# EAGLE library part NRF52840-CKAA-R (library NRF52840-QIAA-R_A_functional)
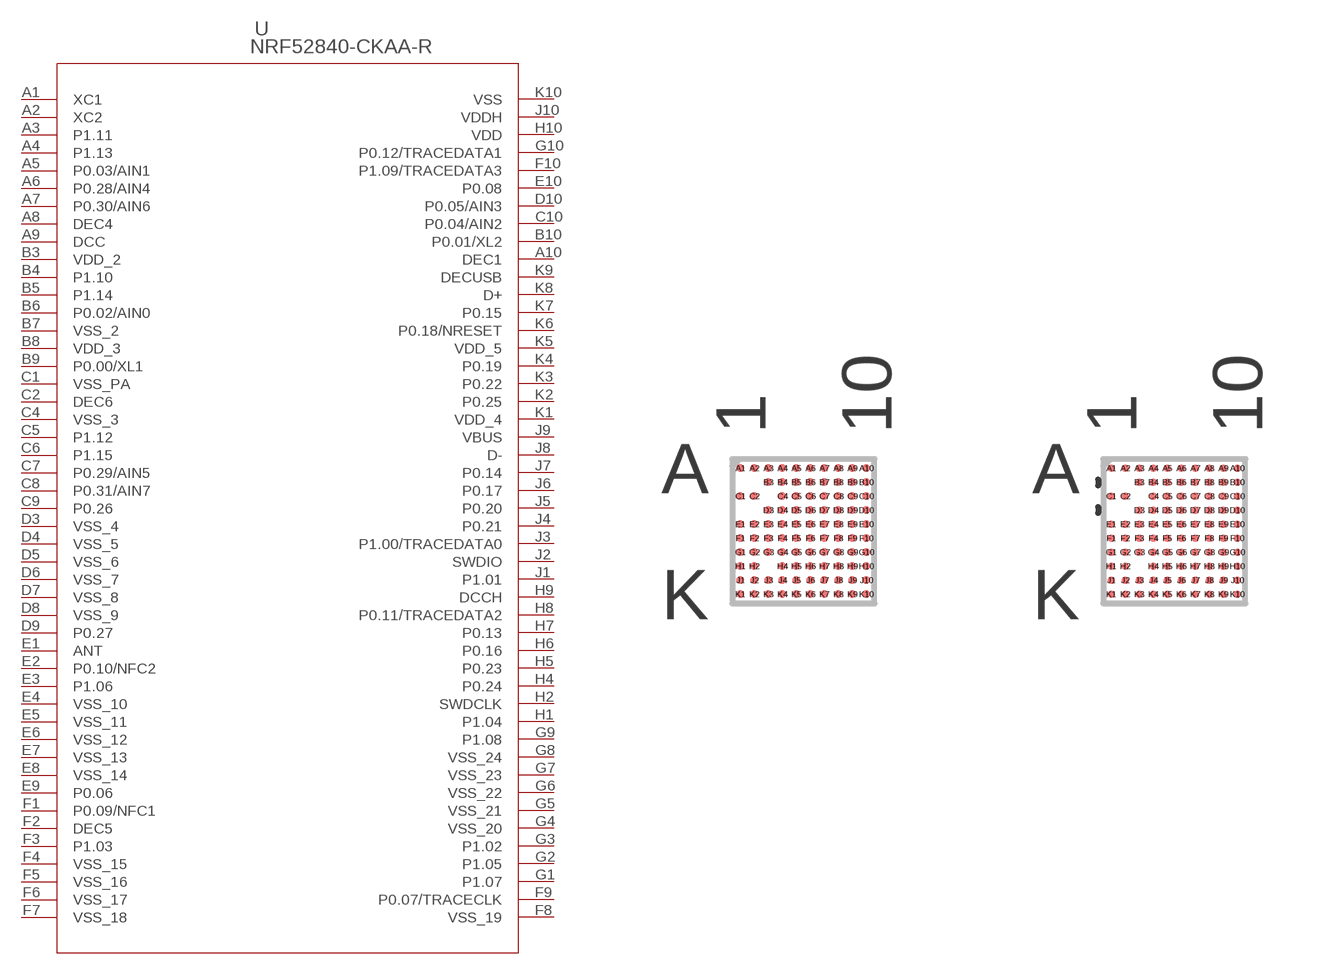
[diagram p0: symbol with the pads of WLCSP94_3P5X3P6_NOR; footprints WLCSP94_3P5X3P6_NOR, WLCSP94_3P5X3P6_NOR-M]

Designator prefix U

## NRF52840-CKAA-R (BUILT_BY: EMA_Jessica; COPYRIGHT: Copyright (C) 2018 Accelerated Designs. All rights reserved; DATASHEET: https://infocenter.nordicsemi.com/pdf/nRF52840_PS_v1.1.pdf; MANUFACTURER_PART_NUMBER: NRF52840-CKAA-R; SOURCELIBRARY: Nordic_Semiconductor_2019-12-30; VENDOR: Nordic Semiconductor)  [WLCSP94_3P5X3P6_NOR]
A1  XC1  in
A2  XC2  in
A3  P1.11
A4  P1.13
A5  P0.03/AIN1
A6  P0.28/AIN4
A7  P0.30/AIN6
A8  DEC4  pwr
A9  DCC  pwr
A10  DEC1  pwr
B3  VDD_2  pwr
B4  P1.10
B5  P1.14
B6  P0.02/AIN0
B7  VSS_2  pwr
B8  VDD_3  pwr
B9  P0.00/XL1
B10  P0.01/XL2
C1  VSS_PA  pwr
C2  DEC6  pwr
C4  VSS_3  pwr
C5  P1.12
C6  P1.15
C7  P0.29/AIN5
C8  P0.31/AIN7
C9  P0.26
C10  P0.04/AIN2
D3  VSS_4  pwr
D4  VSS_5  pwr
D5  VSS_6  pwr
D6  VSS_7  pwr
D7  VSS_8  pwr
D8  VSS_9  pwr
D9  P0.27
D10  P0.05/AIN3
E1  ANT  pas
E2  P0.10/NFC2
E3  P1.06
E4  VSS_10  pwr
E5  VSS_11  pwr
E6  VSS_12  pwr
E7  VSS_13  pwr
E8  VSS_14  pwr
E9  P0.06
E10  P0.08
F1  P0.09/NFC1
F2  DEC5  pwr
F3  P1.03
F4  VSS_15  pwr
F5  VSS_16  pwr
F6  VSS_17  pwr
F7  VSS_18  pwr
F8  VSS_19  pwr
F9  P0.07/TRACECLK
F10  P1.09/TRACEDATA3
G1  P1.07
G2  P1.05
G3  P1.02
G4  VSS_20  pwr
G5  VSS_21  pwr
G6  VSS_22  pwr
G7  VSS_23  pwr
G8  VSS_24  pwr
G9  P1.08
G10  P0.12/TRACEDATA1
H1  P1.04
H2  SWDCLK  in
H4  P0.24
H5  P0.23
H6  P0.16
H7  P0.13
H8  P0.11/TRACEDATA2
H9  DCCH  pwr
H10  VDD  pwr
J1  P1.01
J2  SWDIO
J3  P1.00/TRACEDATA0
J4  P0.21
J5  P0.20
J6  P0.17
J7  P0.14
J8  D-
J9  VBUS  pwr
J10  VDDH  pwr
K1  VDD_4  pwr
K2  P0.25
K3  P0.22
K4  P0.19
K5  VDD_5  pwr
K6  P0.18/NRESET
K7  P0.15
K8  D+
K9  DECUSB  pwr
K10  VSS  pwr

## NRF52840-CKAA-RWLCSP94_3P5X3P6_NOR-M (BUILT_BY: EMA_Jessica; COPYRIGHT: Copyright (C) 2018 Accelerated Designs. All rights reserved; DATASHEET: https://infocenter.nordicsemi.com/pdf/nRF52840_PS_v1.1.pdf; MANUFACTURER_PART_NUMBER: NRF52840-CKAA-R; SOURCELIBRARY: Nordic_Semiconductor_2019-12-30; VENDOR: Nordic Semiconductor)  [WLCSP94_3P5X3P6_NOR-M]
Pads as for WLCSP94_3P5X3P6_NOR

## NRF52840-CKAA-RWLCSP94_3P5X3P6_NOR-L (BUILT_BY: EMA_Jessica; COPYRIGHT: Copyright (C) 2018 Accelerated Designs. All rights reserved; DATASHEET: https://infocenter.nordicsemi.com/pdf/nRF52840_PS_v1.1.pdf; MANUFACTURER_PART_NUMBER: NRF52840-CKAA-R; SOURCELIBRARY: Nordic_Semiconductor_2019-12-30; VENDOR: Nordic Semiconductor)  [WLCSP94_3P5X3P6_NOR-L]
Pads as for WLCSP94_3P5X3P6_NOR

## Footprint WLCSP94_3P5X3P6_NOR (pad centres in mm)
smd 0.203 x 0.203: A1 -1.575,1.575; A2 -1.225,1.575; A3 -0.875,1.575; A4 -0.525,1.575; A5 -0.175,1.575; A6 0.175,1.575; A7 0.525,1.575; A8 0.875,1.575; A9 1.225,1.575; A10 1.575,1.575; B3 -0.875,1.225; B4 -0.525,1.225; B5 -0.175,1.225; B6 0.175,1.225; B7 0.525,1.225; B8 0.875,1.225; B9 1.225,1.225; B10 1.575,1.225; C1 -1.575,0.875; C2 -1.225,0.875; C4 -0.525,0.875; C5 -0.175,0.875; C6 0.175,0.875; C7 0.525,0.875; C8 0.875,0.875; C9 1.225,0.875; C10 1.575,0.875; D3 -0.875,0.525; D4 -0.525,0.525; D5 -0.175,0.525; D6 0.175,0.525; D7 0.525,0.525; D8 0.875,0.525; D9 1.225,0.525; D10 1.575,0.525; E1 -1.575,0.175; E2 -1.225,0.175; E3 -0.875,0.175; E4 -0.525,0.175; E5 -0.175,0.175; E6 0.175,0.175; E7 0.525,0.175; E8 0.875,0.175; E9 1.225,0.175; E10 1.575,0.175; F1 -1.575,-0.175; F2 -1.225,-0.175; F3 -0.875,-0.175; F4 -0.525,-0.175; F5 -0.175,-0.175; F6 0.175,-0.175; F7 0.525,-0.175; F8 0.875,-0.175; F9 1.225,-0.175; F10 1.575,-0.175; G1 -1.575,-0.525; G2 -1.225,-0.525; G3 -0.875,-0.525; G4 -0.525,-0.525; G5 -0.175,-0.525; G6 0.175,-0.525; G7 0.525,-0.525; G8 0.875,-0.525; G9 1.225,-0.525; G10 1.575,-0.525; H1 -1.575,-0.875; H2 -1.225,-0.875; H4 -0.525,-0.875; H5 -0.175,-0.875; H6 0.175,-0.875; H7 0.525,-0.875; H8 0.875,-0.875; H9 1.225,-0.875; H10 1.575,-0.875; J1 -1.575,-1.225; J2 -1.225,-1.225; J3 -0.875,-1.225; J4 -0.525,-1.225; J5 -0.175,-1.225; J6 0.175,-1.225; J7 0.525,-1.225; J8 0.875,-1.225; J9 1.225,-1.225; J10 1.575,-1.225; K1 -1.575,-1.575; K2 -1.225,-1.575; K3 -0.875,-1.575; K4 -0.525,-1.575; K5 -0.175,-1.575; K6 0.175,-1.575; K7 0.525,-1.575; K8 0.875,-1.575; K9 1.225,-1.575; K10 1.575,-1.575

## Footprint WLCSP94_3P5X3P6_NOR-M (pad centres in mm)
smd 0.191 x 0.191: A1 -1.575,1.575; A2 -1.225,1.575; A3 -0.875,1.575; A4 -0.525,1.575; A5 -0.175,1.575; A6 0.175,1.575; A7 0.525,1.575; A8 0.875,1.575; A9 1.225,1.575; A10 1.575,1.575; B3 -0.875,1.225; B4 -0.525,1.225; B5 -0.175,1.225; B6 0.175,1.225; B7 0.525,1.225; B8 0.875,1.225; B9 1.225,1.225; B10 1.575,1.225; C1 -1.575,0.875; C2 -1.225,0.875; C4 -0.525,0.875; C5 -0.175,0.875; C6 0.175,0.875; C7 0.525,0.875; C8 0.875,0.875; C9 1.225,0.875; C10 1.575,0.875; D3 -0.875,0.525; D4 -0.525,0.525; D5 -0.175,0.525; D6 0.175,0.525; D7 0.525,0.525; D8 0.875,0.525; D9 1.225,0.525; D10 1.575,0.525; E1 -1.575,0.175; E2 -1.225,0.175; E3 -0.875,0.175; E4 -0.525,0.175; E5 -0.175,0.175; E6 0.175,0.175; E7 0.525,0.175; E8 0.875,0.175; E9 1.225,0.175; E10 1.575,0.175; F1 -1.575,-0.175; F2 -1.225,-0.175; F3 -0.875,-0.175; F4 -0.525,-0.175; F5 -0.175,-0.175; F6 0.175,-0.175; F7 0.525,-0.175; F8 0.875,-0.175; F9 1.225,-0.175; F10 1.575,-0.175; G1 -1.575,-0.525; G2 -1.225,-0.525; G3 -0.875,-0.525; G4 -0.525,-0.525; G5 -0.175,-0.525; G6 0.175,-0.525; G7 0.525,-0.525; G8 0.875,-0.525; G9 1.225,-0.525; G10 1.575,-0.525; H1 -1.575,-0.875; H2 -1.225,-0.875; H4 -0.525,-0.875; H5 -0.175,-0.875; H6 0.175,-0.875; H7 0.525,-0.875; H8 0.875,-0.875; H9 1.225,-0.875; H10 1.575,-0.875; J1 -1.575,-1.225; J2 -1.225,-1.225; J3 -0.875,-1.225; J4 -0.525,-1.225; J5 -0.175,-1.225; J6 0.175,-1.225; J7 0.525,-1.225; J8 0.875,-1.225; J9 1.225,-1.225; J10 1.575,-1.225; K1 -1.575,-1.575; K2 -1.225,-1.575; K3 -0.875,-1.575; K4 -0.525,-1.575; K5 -0.175,-1.575; K6 0.175,-1.575; K7 0.525,-1.575; K8 0.875,-1.575; K9 1.225,-1.575; K10 1.575,-1.575

## Footprint WLCSP94_3P5X3P6_NOR-L (pad centres in mm)
smd 0.216 x 0.216: A1 -1.575,1.575; A2 -1.225,1.575; A3 -0.875,1.575; A4 -0.525,1.575; A5 -0.175,1.575; A6 0.175,1.575; A7 0.525,1.575; A8 0.875,1.575; A9 1.225,1.575; A10 1.575,1.575; B3 -0.875,1.225; B4 -0.525,1.225; B5 -0.175,1.225; B6 0.175,1.225; B7 0.525,1.225; B8 0.875,1.225; B9 1.225,1.225; B10 1.575,1.225; C1 -1.575,0.875; C2 -1.225,0.875; C4 -0.525,0.875; C5 -0.175,0.875; C6 0.175,0.875; C7 0.525,0.875; C8 0.875,0.875; C9 1.225,0.875; C10 1.575,0.875; D3 -0.875,0.525; D4 -0.525,0.525; D5 -0.175,0.525; D6 0.175,0.525; D7 0.525,0.525; D8 0.875,0.525; D9 1.225,0.525; D10 1.575,0.525; E1 -1.575,0.175; E2 -1.225,0.175; E3 -0.875,0.175; E4 -0.525,0.175; E5 -0.175,0.175; E6 0.175,0.175; E7 0.525,0.175; E8 0.875,0.175; E9 1.225,0.175; E10 1.575,0.175; F1 -1.575,-0.175; F2 -1.225,-0.175; F3 -0.875,-0.175; F4 -0.525,-0.175; F5 -0.175,-0.175; F6 0.175,-0.175; F7 0.525,-0.175; F8 0.875,-0.175; F9 1.225,-0.175; F10 1.575,-0.175; G1 -1.575,-0.525; G2 -1.225,-0.525; G3 -0.875,-0.525; G4 -0.525,-0.525; G5 -0.175,-0.525; G6 0.175,-0.525; G7 0.525,-0.525; G8 0.875,-0.525; G9 1.225,-0.525; G10 1.575,-0.525; H1 -1.575,-0.875; H2 -1.225,-0.875; H4 -0.525,-0.875; H5 -0.175,-0.875; H6 0.175,-0.875; H7 0.525,-0.875; H8 0.875,-0.875; H9 1.225,-0.875; H10 1.575,-0.875; J1 -1.575,-1.225; J2 -1.225,-1.225; J3 -0.875,-1.225; J4 -0.525,-1.225; J5 -0.175,-1.225; J6 0.175,-1.225; J7 0.525,-1.225; J8 0.875,-1.225; J9 1.225,-1.225; J10 1.575,-1.225; K1 -1.575,-1.575; K2 -1.225,-1.575; K3 -0.875,-1.575; K4 -0.525,-1.575; K5 -0.175,-1.575; K6 0.175,-1.575; K7 0.525,-1.575; K8 0.875,-1.575; K9 1.225,-1.575; K10 1.575,-1.575